# Altium schematic symbol library PLS_Connector.SchLib: 23 symbols
Pins are listed as number, name and electrical type; pins without a type are passive.

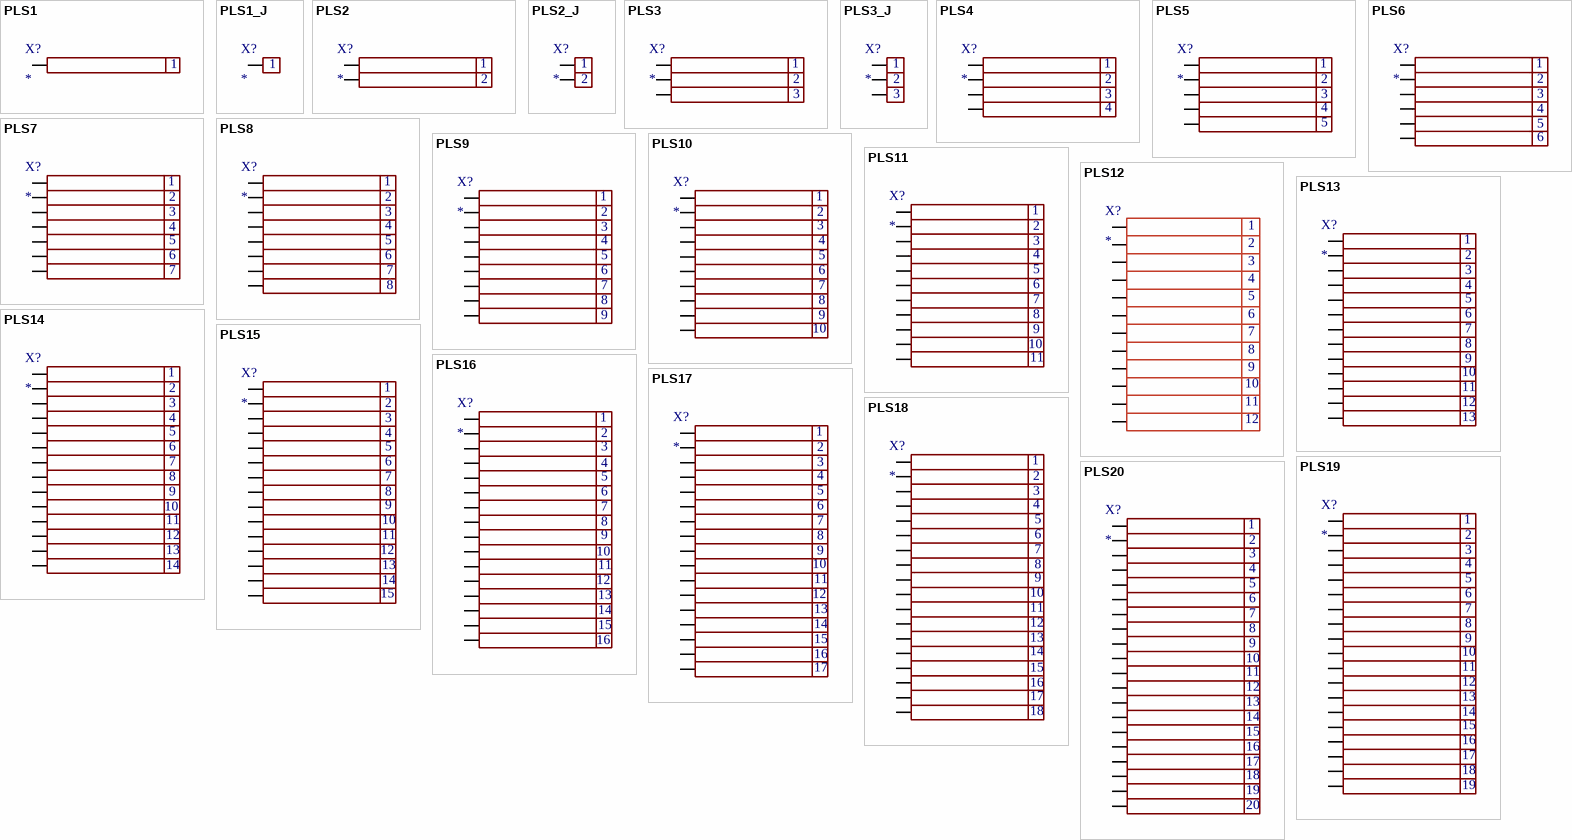
[diagram p0: symbols PLS1 to PLS20]

## PLS1
designator X?
footprint PLS1
pins: 1

## PLS1_J
designator X?
footprint PLS1
pins: 1

## PLS2
designator X?
footprint PLS2
pins: 1, 2

## PLS2_J
designator X?
footprint PLS2
pins: 1, 2

## PLS3
designator X?
footprint PLS3
pins: 1, 2, 3

## PLS3_J
designator X?
footprint PLS3
pins: 1, 2, 3

## PLS4
designator X?
footprint PLS4
pins: 1, 2, 3, 4

## PLS5
designator X?
footprint PLS5
pins: 1, 2, 3, 4, 5

## PLS6
designator X?
footprint PLS6
pins: 1, 2, 3, 4, 5, 6

## PLS7
designator X?
footprint PLS7
pins: 1, 2, 3, 4, 5, 6, 7

## PLS8
designator X?
footprint PLS8
pins: 1, 2, 3, 4, 5, 6, 7, 8

## PLS9
designator X?
footprint PLS9
pins: 1, 2, 3, 4, 5, 6, 7, 8, 9

## PLS10
designator X?
footprint PLS10
pins: 1, 2, 3, 4, 5, 6, 7, 8, 9, 10

## PLS11
designator X?
footprint PLS11
pins: 1, 2, 3, 4, 5, 6, 7, 8, 9, 10, 11

## PLS12
designator X?
footprint PLS12
pins: 1, 2, 3, 4, 5, 6, 7, 8, 9, 10, 11, 12

## PLS13
designator X?
footprint PLS13
pins: 1, 2, 3, 4, 5, 6, 7, 8, 9, 10, 11, 12, 13

## PLS14
designator X?
footprint PLS14
pins: 1, 2, 3, 4, 5, 6, 7, 8, 9, 10, 11, 12, 13, 14

## PLS15
designator X?
footprint PLS15
pins: 1, 2, 3, 4, 5, 6, 7, 8, 9, 10, 11, 12, 13, 14, 15

## PLS16
designator X?
footprint PLS16
pins: 1, 2, 3, 4, 5, 6, 7, 8, 9, 10, 11, 12, 13, 14, 15, 16

## PLS17
designator X?
footprint PLS17
pins: 1, 2, 3, 4, 5, 6, 7, 8, 9, 10, 11, 12, 13, 14, 15, 16, 17

## PLS18
designator X?
footprint PLS18
pins: 1, 2, 3, 4, 5, 6, 7, 8, 9, 10, 11, 12, 13, 14, 15, 16, 17, 18

## PLS19
designator X?
footprint PLS19
pins: 1, 2, 3, 4, 5, 6, 7, 8, 9, 10, 11, 12, 13, 14, 15, 16, 17, 18, 19

## PLS20
designator X?
footprint PLS20
pins: 1, 2, 3, 4, 5, 6, 7, 8, 9, 10, 11, 12, 13, 14, 15, 16, 17, 18, 19, 20